# EAGLE library part DIP8 (library module-footprints)
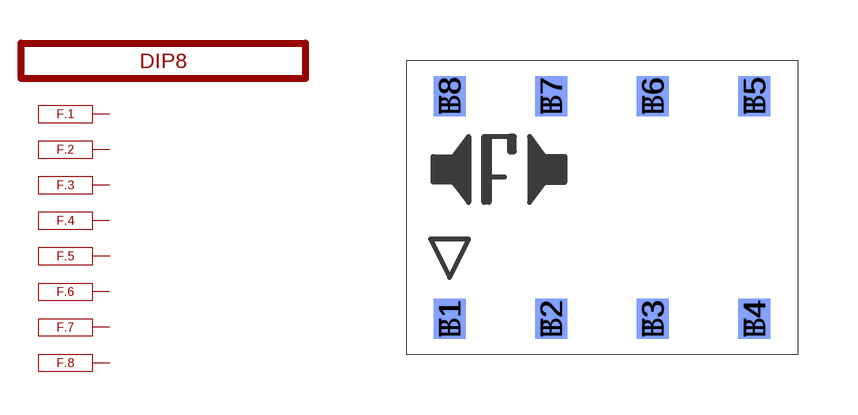
[diagram p3: symbol with the pads of BA3760X8; footprint BA3760X8]

Designator prefix F; gates .1=BA3670 .2=BA3670 .3=BA3670 .4=BA3670 .8=BA3670 .7=BA3670 .6=BA3670 .5=BA3670 G$1=VERSION

## DIP8  [BA3760X8]
B1  .1:PIN
B2  .2:PIN
B3  .3:PIN
B4  .4:PIN
B5  .5:PIN
B6  .6:PIN
B7  .7:PIN
B8  .8:PIN
T1  .1:PIN
T2  .2:PIN
T3  .3:PIN
T4  .4:PIN
T5  .5:PIN
T6  .6:PIN
T7  .7:PIN
T8  .8:PIN

## Footprint BA3760X8 (pad centres in mm)
smd 0.8 x 1 bottom: B1 1.27,1.025; B2 3.81,1.025; B3 6.35,1.025; B4 8.89,1.025; B5 8.89,6.595; B6 6.35,6.595; B7 3.81,6.595; B8 1.27,6.595
smd 0.8 x 1: T1 1.27,1.025; T2 3.81,1.025; T3 6.35,1.025; T4 8.89,1.025; T5 8.89,6.595; T6 6.35,6.595; T7 3.81,6.595; T8 1.27,6.595